# Altium footprint library myPcbLib.PcbLib: 116 footprints (part 5 of 8)
Each footprint in its own frame and in the unit in brackets; x right, y up, seen from the top. Pads: shape width x height; smd on the part's side, far side on the other; paste and mask are expansions set on the pad; w line width, h text height; cw(c..) or ccw(c..) is an arc to the next point about the centre after c.
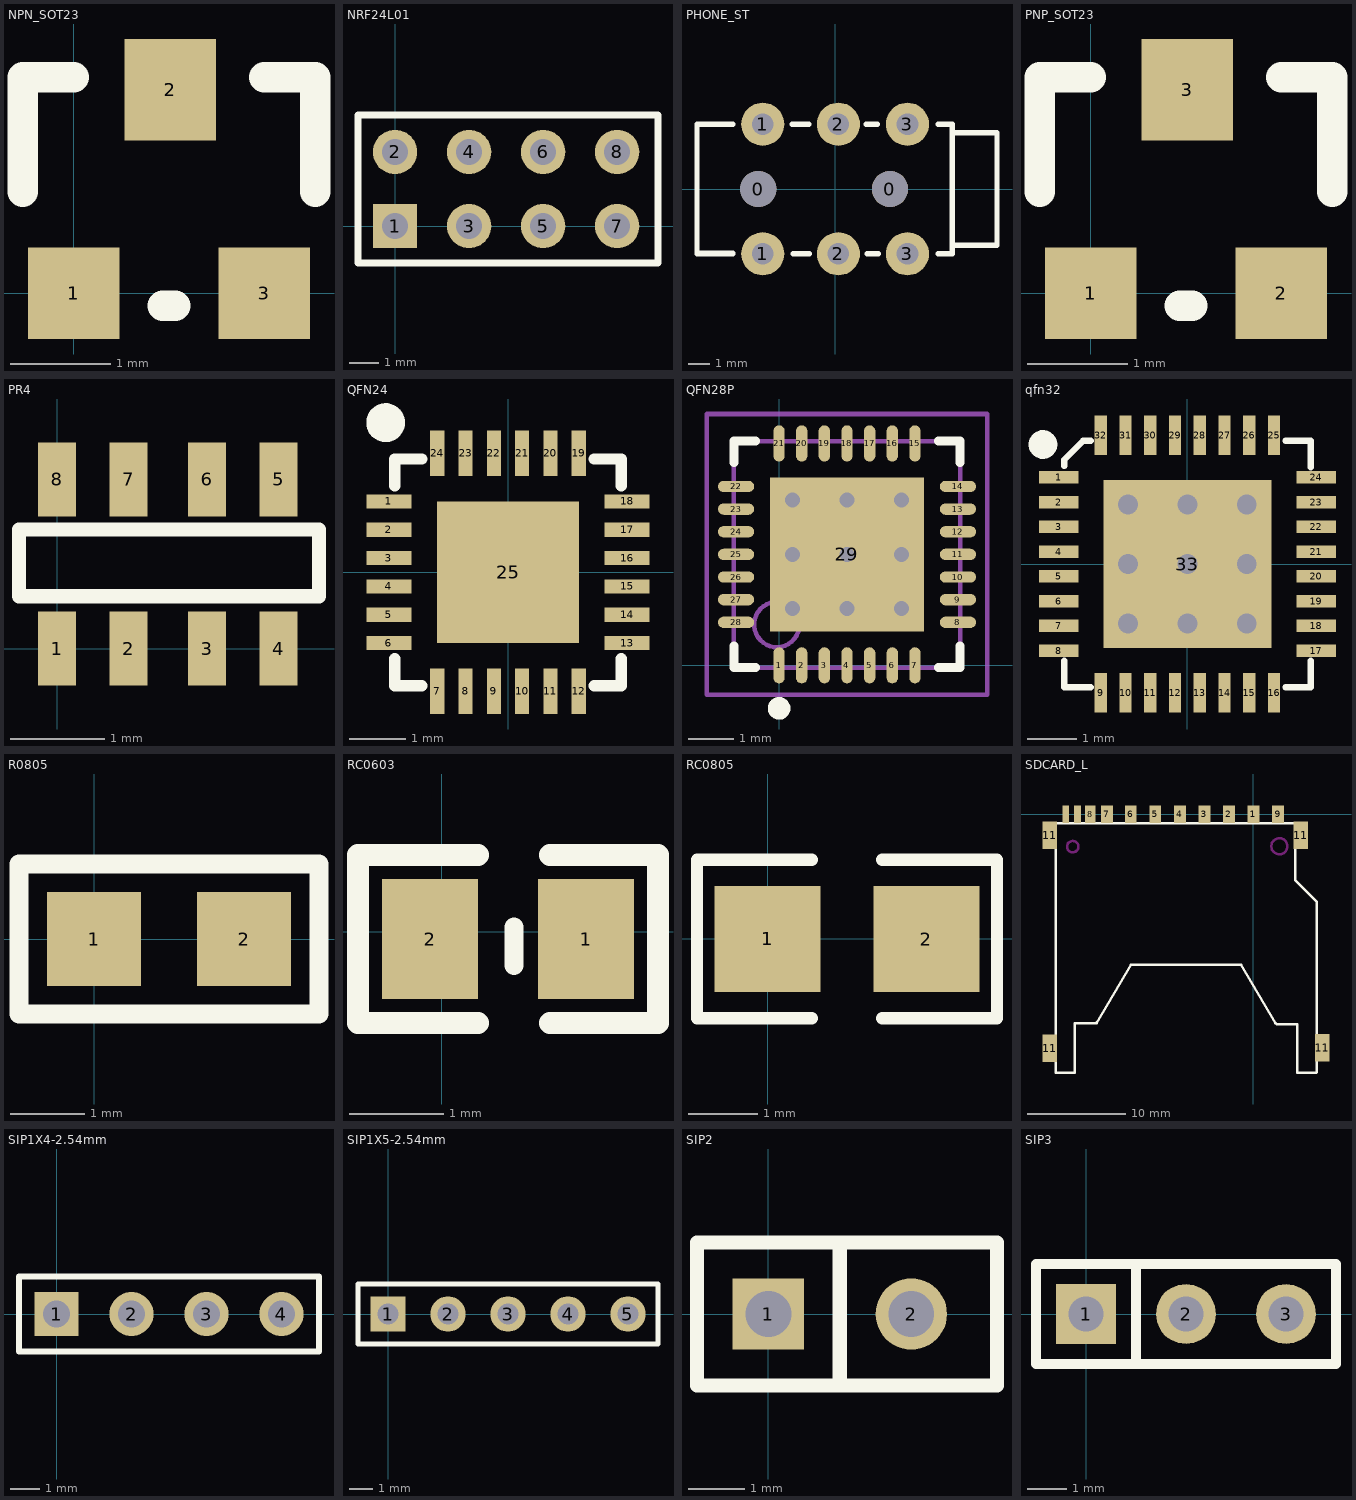
[diagram p4: the footprints below, top view; thin cyan lines are the x and y axes]

## NPN_SOT23 [mil]
pads (3):
  rect 36x36 smd: 1(0,0) 3(75,0)
  rect 36x40 smd: 2(38,80)
Top Overlay:
  lines w12: -20,40 -20,85 0,85 ; 35,-5 40,-5 ; 75,85 95,85 95,40

## NRF24L01 [mil]
pads (8):
  rect 60x60 hole 35: 1(0,0)
  round 60 hole 35: 2(0,100) 3(100,0) 4(100,100) 5(200,0) 6(200,100) 7(300,0) 8(300,100)
Top Overlay:
  lines w10: -50,-50 -50,50 -50,150 355.16,150 355.16,-50 -50,-50

## PHONE_ST [mm]
pads (8):
  round 1.676 hole 1.676: 0(-3.556,0) 0(2.54,0)
  round 2 hole 1: 1(-3.35,-3) 1(-3.35,3) 2(0.15,-3) 2(0.15,3) 3(3.35,-3) 3(3.35,3)
Top Overlay:
  lines w0.254: -6.393,-2.969 -4.742,-2.969 ; -4.742,-3.007 -6.393,-3.007 -6.393,3 -4.742,3 ; -1.986,3 -1.224,3 ; -1.948,-3.007 -1.186,-3.007 ; 1.443,3 1.951,3 ; 1.481,-3.007 1.989,-3.007 ; 4.783,-3.007 5.33,-3.007 ; 4.783,3 5.418,3 5.418,-3.007 ; 5.418,-2.6 7.493,-2.6 7.493,2.6 5.418,2.6

## PNP_SOT23 [mil]
pads (3):
  rect 36x36 smd: 1(0,0) 2(75,0)
  rect 36x40 smd: 3(38,80)
Top Overlay:
  lines w12: -20,40 -20,85 0,85 ; 35,-5 40,-5 ; 75,85 95,85 95,40

## PR4 [mil]
pads (8):
  rect 16x31 smd: 1(0,0) 2(30,0) 3(63,0) 4(93,0) 5(93,71) 6(63,71) 7(30,71) 8(0,71)
Top Overlay:
  lines w6: -16,22 -16,50 110,50 110,22 -16,22

## QFN24 [mm]
pads (25):
  rect 0.8x0.25 smd: 1(-2.101,1.25) 2(-2.101,0.75) 3(-2.101,0.25) 4(-2.101,-0.25) 5(-2.101,-0.75) 6(-2.101,-1.25) 13(2.101,-1.25) 14(2.101,-0.75) 15(2.101,-0.25) 16(2.101,0.25) 17(2.101,0.75) 18(2.101,1.25)
  rect 0.25x0.8 smd: 7(-1.25,-2.101) 8(-0.75,-2.101) 9(-0.25,-2.101) 10(0.25,-2.101) 11(0.75,-2.101) 12(1.25,-2.101) 19(1.25,2.101) 20(0.75,2.101) 21(0.25,2.101) 22(-0.25,2.101) 23(-0.75,2.101) 24(-1.25,2.101)
  rect 2.5x2.5 smd: 25(0,0)
Top Overlay:
  circle w0.381: c-2.159,2.642 r0.152
  lines w0.2: -2,-1.525 -2,-2 -1.525,-2 ; -2,1.525 -2,2 -1.525,2 ; 1.525,-2 2,-2 2,-1.525 ; 1.525,2 2,2 2,1.525

## QFN28P [mm]
pads (29):
  oval 0.25x0.8 smd: 1(0,0) 2(0.5,0) 3(1,0) 4(1.5,0) 5(2,0) 6(2.5,0) 7(3,0) 15(3,4.9) 16(2.5,4.9) 17(2,4.9) 18(1.5,4.9) 19(1,4.9) 20(0.5,4.9) 21(0,4.9)
  oval 0.8x0.25 smd: 8(3.95,0.95) 9(3.95,1.45) 10(3.95,1.95) 11(3.95,2.45) 12(3.95,2.95) 13(3.95,3.45) 14(3.95,3.95) 22(-0.95,3.95) 23(-0.95,3.45) 24(-0.95,2.95) 25(-0.95,2.45) 26(-0.95,1.95) 27(-0.95,1.45) 28(-0.95,0.95)
  rect 3.4x3.4 smd: 29(1.5,2.45)
via 2.7,3.65 diameter 0.66 hole 0.33
via 2.7,2.45 diameter 0.66 hole 0.33
via 2.7,1.25 diameter 0.66 hole 0.33
via 1.5,3.65 diameter 0.66 hole 0.33
via 1.5,2.45 diameter 0.66 hole 0.33
via 1.5,1.25 diameter 0.66 hole 0.33
via 0.3,3.65 diameter 0.66 hole 0.33
via 0.3,2.45 diameter 0.66 hole 0.33
via 0.3,1.25 diameter 0.66 hole 0.33
Top Overlay:
  circle w0.25: c0,-0.95 r0.125
  lines w0.2: -1,0.425 -1,-0.05 -0.525,-0.05 ; -1,4.475 -1,4.95 -0.525,4.95 ; 3.525,-0.05 4,-0.05 4,0.425 ; 3.525,4.95 4,4.95 4,4.475
Mechanical 13:
  circle w0.1: c-0.05,0.9 r0.5
  lines w0.1: -1,-0.05 -1,4.95 4,4.95 4,-0.05 -1,-0.05
Mechanical 15:
  lines w0.1: 1,2.45 2,2.45 ; 1.5,1.95 1.5,2.95 ; -1.6,-0.65 -1.6,5.55 4.6,5.55 4.6,-0.65 -1.6,-0.65
3D body: height 1, standoff 0.01, extent -1,-0.05 4,4.95

## qfn32 [mm]
pads (33):
  rect 0.8x0.25 smd: 1(-2.601,1.75) 2(-2.601,1.25) 3(-2.601,0.75) 4(-2.601,0.25) 5(-2.601,-0.25) 6(-2.601,-0.75) 7(-2.601,-1.25) 8(-2.601,-1.75) 17(2.601,-1.75) 18(2.601,-1.25) 19(2.601,-0.75) 20(2.601,-0.25) 21(2.601,0.25) 22(2.601,0.75) 23(2.601,1.25) 24(2.601,1.75)
  rect 0.25x0.8 smd: 9(-1.75,-2.601) 10(-1.25,-2.601) 11(-0.75,-2.601) 12(-0.25,-2.601) 13(0.25,-2.601) 14(0.75,-2.601) 15(1.25,-2.601) 16(1.75,-2.601) 25(1.75,2.601) 26(1.25,2.601) 27(0.75,2.601) 28(0.25,2.601) 29(-0.25,2.601) 30(-0.75,2.601) 31(-1.25,2.601) 32(-1.75,2.601)
  rect 3.4x3.4 smd: 33(0,0)
via 1.2,-1.2 diameter 0.7 hole 0.4
via 0,-1.2 diameter 0.7 hole 0.4
via -1.2,-1.2 diameter 0.7 hole 0.4
via 1.2,0 diameter 0.7 hole 0.4
via 0,0 diameter 0.7 hole 0.4
via -1.2,0 diameter 0.7 hole 0.4
via 1.2,1.2 diameter 0.7 hole 0.4
via 0,1.2 diameter 0.7 hole 0.4
via -1.2,1.2 diameter 0.7 hole 0.4
Top Overlay:
  circle w0.3: c-2.919,2.413 r0.14
  lines w0.127: -2.489,-1.956 -2.489,-2.489 -1.956,-2.489 ; -2.489,1.981 -2.489,2.108 -2.108,2.489 -1.956,2.489 ; 1.981,-2.489 2.489,-2.489 2.489,-1.956 ; 1.981,2.489 2.489,2.489 2.489,1.956
Mechanical 15:
  lines w0.1: -0.5,0 0.5,0 ; 0,-0.5 0,0.5

## R0805 [mil]
pads (2):
  rect 50x50 smd: 1(0,0) 2(80,0)
Top Overlay:
  lines w10: -40,-40 120,-40 120,40 -40,40 -40,-40

## RC0603 [mil]
height 100
pads (2):
  rect 40x50 smd: 1(60,-3) 2(-5,-3)
Top Overlay:
  lines w8: 30,-14 30,2
  lines w9: 15,-38 -35,-38 -35,32 15,32 ; 45,-38 90,-38 90,32 45,32

## RC0805 [mil]
pads (2):
  rect 60x60 smd: 1(0,0) 2(90,0)
Top Overlay:
  lines w7: 25,-45 -40,-45 -40,45 25,45 ; 65,-45 130,-45 130,45 65,45

## SDCARD_L [mm]
pads (15):
  rect 1.2x1.8 smd: 1(0,0) 2(-2.489,0) 3(-4.983,-0.009) 4(-7.483,-0.009) 5(-9.983,-0.009) 6(-12.483,-0.009) 7(-14.908,-0.009) 9(2.517,-0.009)
  rect 1.1x1.8 smd: 8(-16.612,0)
  rect 0.7x1.8 smd: 10(-17.908,-0.009) 12(-19.101,0)
  rect 1.5x2.8 smd: 11(-20.726,-23.834) 11(-20.726,-2.143) 11(4.826,-2.143) 11(7.01,-23.784)
Top Overlay:
  lines w0.254: -18.158,-21.3 -18.158,-26.3 -20.131,-26.3 -20.131,-0.914 -20.117,-0.9 4.242,-0.9 4.242,-6.71 6.431,-8.899 6.442,-8.899 6.442,-26.273 6.415,-26.3 4.442,-26.3 4.442,-21.402 2.4,-21.402 2.242,-21.244 ; -18.107,-21.294 -16.065,-21.294 -15.907,-21.136 ; -15.958,-21.294 -12.446,-15.3 ; -12.458,-15.3 -1.258,-15.3 2.242,-21.294
Keep-Out Layer:
  circle w0.254: c2.642,-3.26 r0.82
  circle w0.254: c-18.39,-3.3 r0.58

## SIP1X4-2.54mm [mm]
pads (4):
  rect 1.5x1.5 hole 0.9: 1(0,0)
  round 1.5 hole 0.9: 2(2.54,0) 3(5.08,0) 4(7.62,0)
Top Overlay:
  lines w0.2: -1.27,-1.27 8.89,-1.27 8.89,1.27 -1.27,1.27 -1.27,-1.27

## SIP1X5-2.54mm [mm]
pads (5):
  rect 1.5x1.5 hole 0.9: 1(0,0)
  round 1.5 hole 0.9: 2(2.54,0) 3(5.08,0) 4(7.62,0) 5(10.16,0)
Top Overlay:
  lines w0.2: -1.27,-1.27 -1.27,1.27 11.43,1.27 11.43,-1.27 -1.27,-1.27

## SIP2 [mil]
pads (2):
  rect 50x50 hole 32: 1(0,0)
  round 50 hole 32: 2(100,0)
Top Overlay:
  lines w10: 50,-50 50,50 ; -50,-50 -50,50 160,50 160,-50 -50,-50

## SIP3 [mil]
pads (3):
  rect 60x60 hole 35: 1(0,0)
  round 60 hole 35: 2(100,0) 3(200,0)
Top Overlay:
  lines w10: 50,-50 50,50 ; -50,-50 -50,50 250,50 250,-50 -50,-50